# EAGLE library part AM335X (library work)
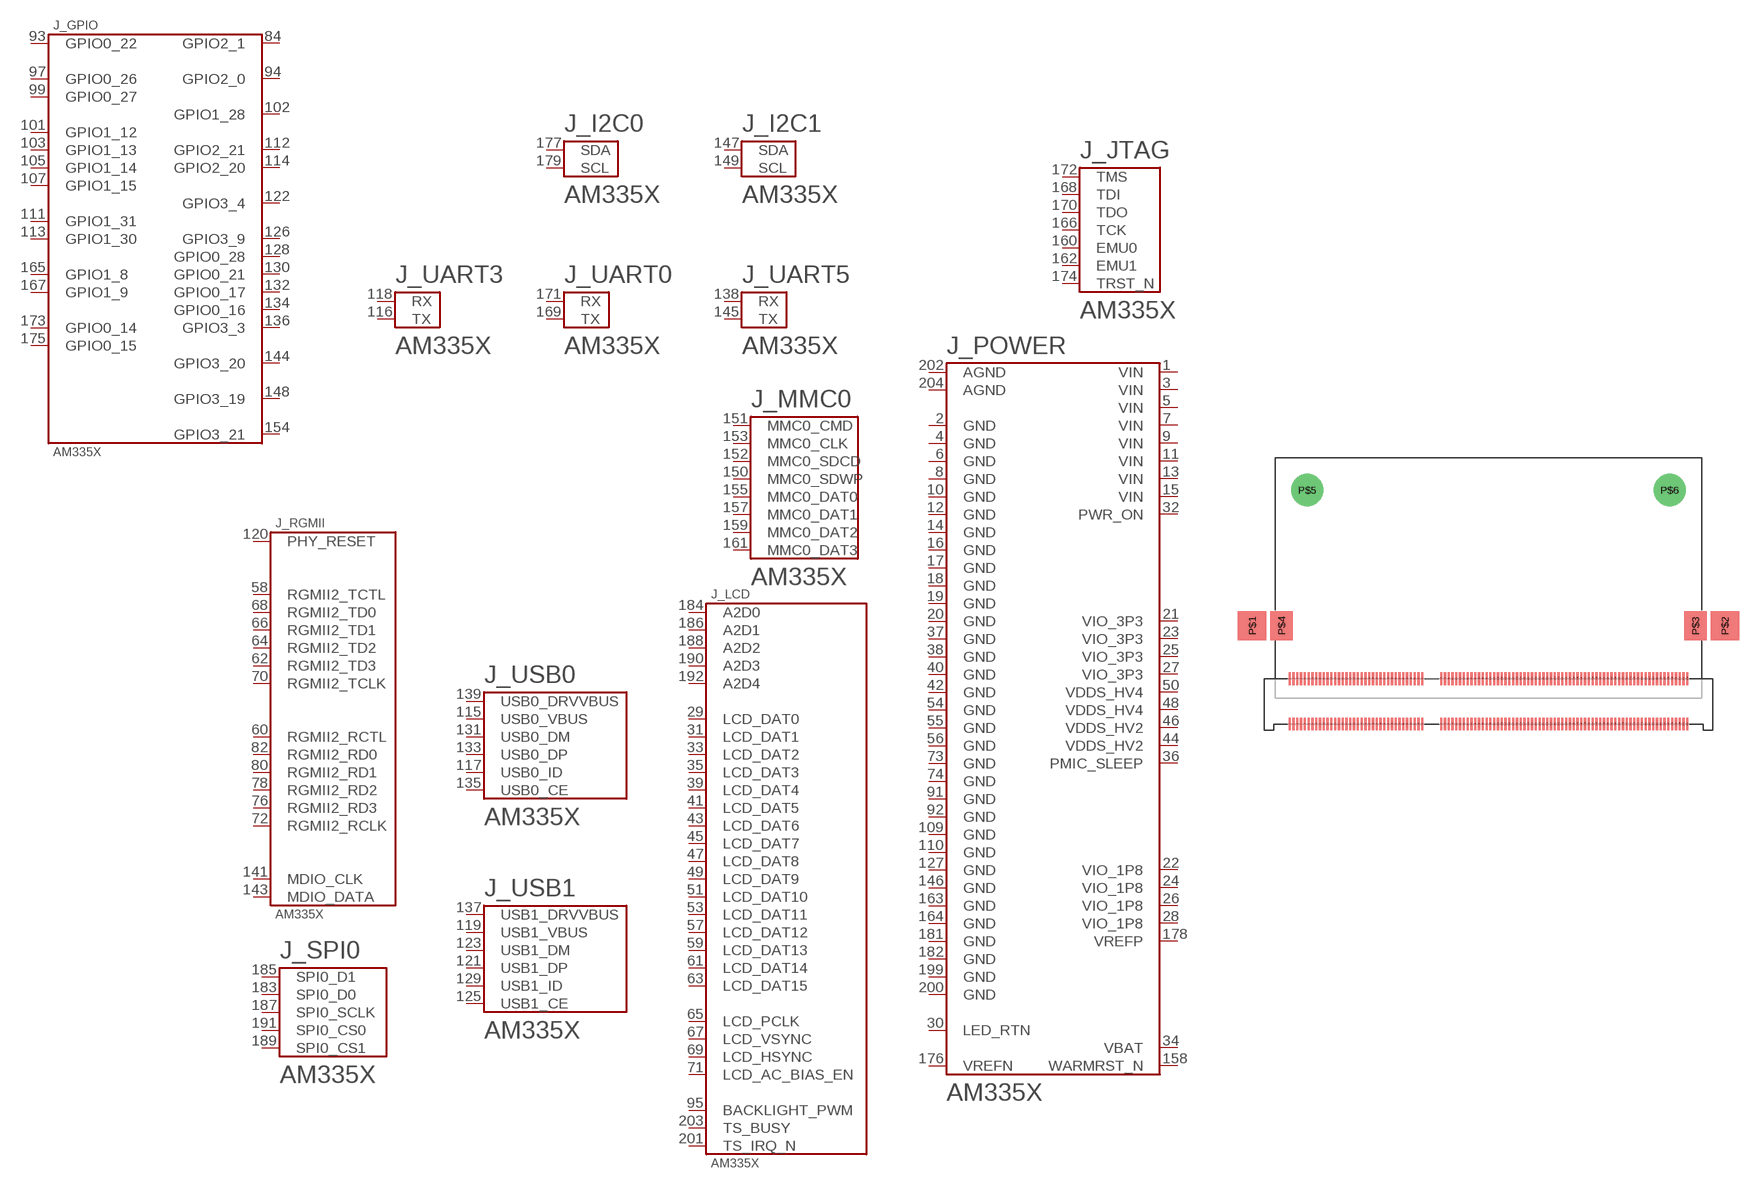
[diagram p60: symbol with the pads of DDR2-204_SOCKET; footprint DDR2-204_SOCKET]

Designator prefix J; gates _I2C0=AM335X-I2C0 _I2C1=AM335X-I2C1 _LCD=AM335X-LCD _MMC0=AM335X-MMC0 _POWER=AM335X-POWER _UART0=AM335X-UART0 _UART3=AM335X-UART3 _UART5=AM335X-UART5 _USB0=AM335X-USB0 _USB1=AM335X-USB1 _RGMII=AM335X-RGMII _JTAG=AM335X-JTAG _SPI0=AM335X-IO_CONTROLLER _GPIO=AM335X-GPIO

## AM335X  [DDR2-204_SOCKET]
1  _POWER:VIN
2  _POWER:GND
3  _POWER:VIN
4  _POWER:GND
5  _POWER:VIN
6  _POWER:GND
7  _POWER:VIN
8  _POWER:GND
9  _POWER:VIN
10  _POWER:GND
11  _POWER:VIN
12  _POWER:GND
13  _POWER:VIN
14  _POWER:GND
15  _POWER:VIN
16  _POWER:GND
17  _POWER:GND
18  _POWER:GND
19  _POWER:GND
20  _POWER:GND
21  _POWER:VIO_3P3
22  _POWER:VIO_1P8
23  _POWER:VIO_3P3
24  _POWER:VIO_1P8
25  _POWER:VIO_3P3
26  _POWER:VIO_1P8
27  _POWER:VIO_3P3
28  _POWER:VIO_1P8
29  _LCD:LCD_DAT0
30  _POWER:LED_RTN
31  _LCD:LCD_DAT1
32  _POWER:PWR_ON
33  _LCD:LCD_DAT2
34  _POWER:VBAT
35  _LCD:LCD_DAT3
36  _POWER:PMIC_SLEEP
37  _POWER:GND
38  _POWER:GND
39  _LCD:LCD_DAT4
40  _POWER:GND
41  _LCD:LCD_DAT5
42  _POWER:GND
43  _LCD:LCD_DAT6
44  _POWER:VDDS_HV2
45  _LCD:LCD_DAT7
46  _POWER:VDDS_HV2
47  _LCD:LCD_DAT8
48  _POWER:VDDS_HV4
49  _LCD:LCD_DAT9
50  _POWER:VDDS_HV4
51  _LCD:LCD_DAT10
53  _LCD:LCD_DAT11
54  _POWER:GND
55  _POWER:GND
56  _POWER:GND
57  _LCD:LCD_DAT12
58  _RGMII:RGMII2_TCTL
59  _LCD:LCD_DAT13
60  _RGMII:RGMII2_RCTL
61  _LCD:LCD_DAT14
62  _RGMII:RGMII2_TD3
63  _LCD:LCD_DAT15
64  _RGMII:RGMII2_TD2
65  _LCD:LCD_PCLK
66  _RGMII:RGMII2_TD1
67  _LCD:LCD_VSYNC
68  _RGMII:RGMII2_TD0
69  _LCD:LCD_HSYNC
70  _RGMII:RGMII2_TCLK
71  _LCD:LCD_AC_BIAS_EN
72  _RGMII:RGMII2_RCLK
73  _POWER:GND
74  _POWER:GND
76  _RGMII:RGMII2_RD3
78  _RGMII:RGMII2_RD2
80  _RGMII:RGMII2_RD1
82  _RGMII:RGMII2_RD0
84  _GPIO:GPIO2_1
91  _POWER:GND
92  _POWER:GND
93  _GPIO:GPIO0_22
94  _GPIO:GPIO2_0
95  _LCD:BACKLIGHT_PWM
97  _GPIO:GPIO0_26
99  _GPIO:GPIO0_27
101  _GPIO:GPIO1_12
102  _GPIO:GPIO1_28
103  _GPIO:GPIO1_13
105  _GPIO:GPIO1_14
107  _GPIO:GPIO1_15
109  _POWER:GND
110  _POWER:GND
111  _GPIO:GPIO1_31
112  _GPIO:GPIO2_21
113  _GPIO:GPIO1_30
114  _GPIO:GPIO2_20
115  _USB0:USB0_VBUS
116  _UART3:TX
117  _USB0:USB0_ID
118  _UART3:RX
119  _USB1:USB1_VBUS
120  _RGMII:PHY_RESET
121  _USB1:USB1_DP
122  _GPIO:GPIO3_4
123  _USB1:USB1_DM
125  _USB1:USB1_CE
126  _GPIO:GPIO3_9
127  _POWER:GND
128  _GPIO:GPIO0_28
129  _USB1:USB1_ID
130  _GPIO:GPIO0_21
131  _USB0:USB0_DM
132  _GPIO:GPIO0_17
133  _USB0:USB0_DP
134  _GPIO:GPIO0_16
135  _USB0:USB0_CE
136  _GPIO:GPIO3_3
137  _USB1:USB1_DRVVBUS
138  _UART5:RX
139  _USB0:USB0_DRVVBUS
141  _RGMII:MDIO_CLK
143  _RGMII:MDIO_DATA
144  _GPIO:GPIO3_20
145  _UART5:TX
146  _POWER:GND
147  _I2C1:SDA
148  _GPIO:GPIO3_19
149  _I2C1:SCL
150  _MMC0:MMC0_SDWP
151  _MMC0:MMC0_CMD
152  _MMC0:MMC0_SDCD
153  _MMC0:MMC0_CLK
154  _GPIO:GPIO3_21
155  _MMC0:MMC0_DAT0
157  _MMC0:MMC0_DAT1
158  _POWER:WARMRST_N
159  _MMC0:MMC0_DAT2
160  _JTAG:EMU0
161  _MMC0:MMC0_DAT3
162  _JTAG:EMU1
163  _POWER:GND
164  _POWER:GND
165  _GPIO:GPIO1_8
166  _JTAG:TCK
167  _GPIO:GPIO1_9
168  _JTAG:TDI
169  _UART0:TX
170  _JTAG:TDO
171  _UART0:RX
172  _JTAG:TMS
173  _GPIO:GPIO0_14
174  _JTAG:TRST_N
175  _GPIO:GPIO0_15
176  _POWER:VREFN
177  _I2C0:SDA
178  _POWER:VREFP
179  _I2C0:SCL
181  _POWER:GND
182  _POWER:GND
183  _SPI0:SPI0_D0
184  _LCD:A2D0
185  _SPI0:SPI0_D1
186  _LCD:A2D1
187  _SPI0:SPI0_SCLK
188  _LCD:A2D2
189  _SPI0:SPI0_CS1
190  _LCD:A2D3
191  _SPI0:SPI0_CS0
192  _LCD:A2D4
199  _POWER:GND
200  _POWER:GND
201  _LCD:TS_IRQ_N
202  _POWER:AGND
203  _LCD:TS_BUSY
204  _POWER:AGND

## Footprint DDR2-204_SOCKET (pad centres in mm)
smd 0.35 x 2: 1 -31.5,-3.6; 2 -31.5,3.6; 3 -30.9,-3.6; 4 -30.9,3.6; 5 -30.3,-3.6; 6 -30.3,3.6; 7 -29.7,-3.6; 8 -29.7,3.6; 9 -29.1,-3.6; 10 -29.1,3.6; 11 -28.5,-3.6; 12 -28.5,3.6; 13 -27.9,-3.6; 14 -27.9,3.6; 15 -27.3,-3.6; 16 -27.3,3.6; 17 -26.7,-3.6; 18 -26.7,3.6; 19 -26.1,-3.6; 20 -26.1,3.6; 21 -25.5,-3.6; 22 -25.5,3.6; 23 -24.9,-3.6; 24 -24.9,3.6; 25 -24.3,-3.6; 26 -24.3,3.6; 27 -23.7,-3.6; 28 -23.7,3.6; 29 -23.1,-3.6; 30 -23.1,3.6; 31 -22.5,-3.6; 32 -22.5,3.6; 33 -21.9,-3.6; 34 -21.9,3.6; 35 -21.3,-3.6; 36 -21.3,3.6; 37 -20.7,-3.6; 38 -20.7,3.6; 39 -20.1,-3.6; 40 -20.1,3.6; 41 -19.5,-3.6; 42 -19.5,3.6; 43 -18.9,-3.6; 44 -18.9,3.6; 45 -18.3,-3.6; 46 -18.3,3.6; 47 -17.7,-3.6; 48 -17.7,3.6; 49 -17.1,-3.6; 50 -17.1,3.6; 51 -16.5,-3.6; 52 -16.5,3.6; 53 -15.9,-3.6; 54 -15.9,3.6; 55 -15.3,-3.6; 56 -15.3,3.6; 57 -14.7,-3.6; 58 -14.7,3.6; 59 -14.1,-3.6; 60 -14.1,3.6; 61 -13.5,-3.6; 62 -13.5,3.6; 63 -12.9,-3.6; 64 -12.9,3.6; 65 -12.3,-3.6; 66 -12.3,3.6; 67 -11.7,-3.6; 68 -11.7,3.6; 69 -11.1,-3.6; 70 -11.1,3.6; 71 -10.5,-3.6; 72 -10.5,3.6; 73 -7.5,-3.6; 74 -7.5,3.6; 75 -6.9,-3.6; 76 -6.9,3.6; 77 -6.3,-3.6; 78 -6.3,3.6; 79 -5.7,-3.6; 80 -5.7,3.6; 81 -5.1,-3.6; 82 -5.1,3.6; 83 -4.5,-3.6; 84 -4.5,3.6; 85 -3.9,-3.6; 86 -3.9,3.6; 87 -3.3,-3.6; 88 -3.3,3.6; 89 -2.7,-3.6; 90 -2.7,3.6; 91 -2.1,-3.6; 92 -2.1,3.6; 93 -1.5,-3.6; 94 -1.5,3.6; 95 -0.9,-3.6; 96 -0.9,3.6; 97 -0.3,-3.6; 98 -0.3,3.6; 99 0.3,-3.6; 100 0.3,3.6; 101 0.9,-3.6; 102 0.9,3.6; 103 1.5,-3.6; 104 1.5,3.6; 105 2.1,-3.6; 106 2.1,3.6; 107 2.7,-3.6; 108 2.7,3.6; 109 3.3,-3.6; 110 3.3,3.6; 111 3.9,-3.6; 112 3.9,3.6; 113 4.5,-3.6; 114 4.5,3.6; 115 5.1,-3.6; 116 5.1,3.6; 117 5.7,-3.6; 118 5.7,3.6; 119 6.3,-3.6; 120 6.3,3.6; 121 6.9,-3.6; 122 6.9,3.6; 123 7.5,-3.6; 124 7.5,3.6; 125 8.1,-3.6; 126 8.1,3.6; 127 8.7,-3.6; 128 8.7,3.6; 129 9.3,-3.6; 130 9.3,3.6; 131 9.9,-3.6; 132 9.9,3.6; 133 10.5,-3.6; 134 10.5,3.6; 135 11.1,-3.6; 136 11.1,3.6; 137 11.7,-3.6; 138 11.7,3.6; 139 12.3,-3.6; 140 12.3,3.6; 141 12.9,-3.6; 142 12.9,3.6; 143 13.5,-3.6; 144 13.5,3.6; 145 14.1,-3.6; 146 14.1,3.6; 147 14.7,-3.6; 148 14.7,3.6; 149 15.3,-3.6; 150 15.3,3.6; 151 15.9,-3.6; 152 15.9,3.6; 153 16.5,-3.6; 154 16.5,3.6; 155 17.1,-3.6; 156 17.1,3.6; 157 17.7,-3.6; 158 17.7,3.6; 159 18.3,-3.6; 160 18.3,3.6; 161 18.9,-3.6; 162 18.9,3.6; 163 19.5,-3.6; 164 19.5,3.6; 165 20.1,-3.6; 166 20.1,3.6; 167 20.7,-3.6; 168 20.7,3.6; 169 21.3,-3.6; 170 21.3,3.6; 171 21.9,-3.6; 172 21.9,3.6; 173 22.5,-3.6; 174 22.5,3.6; 175 23.1,-3.6; 176 23.1,3.6; 177 23.7,-3.6; 178 23.7,3.6; 179 24.3,-3.6; 180 24.3,3.6; 181 24.9,-3.6; 182 24.9,3.6; 183 25.5,-3.6; 184 25.5,3.6; 185 26.1,-3.6; 186 26.1,3.6; 187 26.7,-3.6; 188 26.7,3.6; 189 27.3,-3.6; 190 27.3,3.6; 191 27.9,-3.6; 192 27.9,3.6; 193 28.5,-3.6; 194 28.5,3.6; 195 29.1,-3.6; 196 29.1,3.6; 197 29.7,-3.6; 198 29.7,3.6; 199 30.3,-3.6; 200 30.3,3.6; 201 30.9,-3.6; 202 30.9,3.6; 203 31.5,-3.6; 204 31.5,3.6
smd 4.5 x 4.6: P$1 -37.45,12; P$2 37.45,12
smd 3.5 x 4.6: P$3 32.8,12; P$4 -32.8,12
drill 2.54 pad 5.08: P$5 -28.702,33.5; P$6 28.702,33.5